# Altium footprint library TO-220F-4L(Forming).PcbLib: 1 footprints
Each footprint in its own frame and in the unit in brackets; x right, y up, seen from the top. Pads: shape width x height; smd on the part's side, far side on the other; paste and mask are expansions set on the pad; w line width, h text height; cw(c..) or ccw(c..) is an arc to the next point about the centre after c.
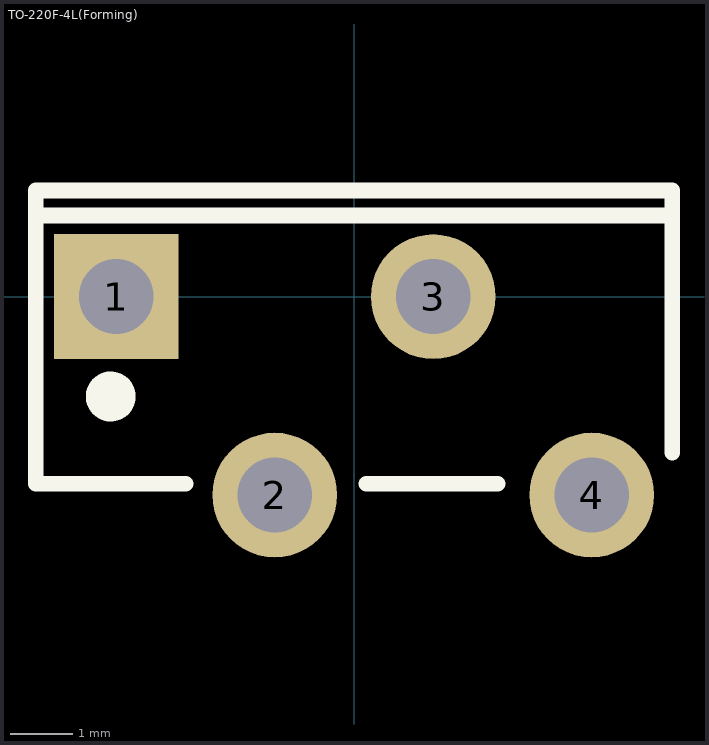
[diagram p0: the footprint, top view; thin cyan lines are the x and y axes]

## TO-220F-4L(Forming) [mm]
pads (4):
  rect 2x2 hole 1.2: 1(-3.81,0)
  round 2 hole 1.2: 2(-1.27,-3.18) 3(1.27,0) 4(3.81,-3.18)
Top Overlay:
  circle w0.4: c-3.9,-1.6 r0.2
  lines w0.254: -5.1,1.3 5.1,1.3 ; -2.7,-3 -5.1,-3 -5.1,1.7 5.1,1.7 5.1,-2.5 ; 0.2,-3 2.3,-3